# EAGLE library part TA07-11EWA (library 1_Robo-Lib)
50mm (2.0 INCH) 5x7 DOT MATRIX DISPLAY Source: http://www.kingbright.com/manager/upload/pdf/TC20-11EWA(Ver1189410378.9)
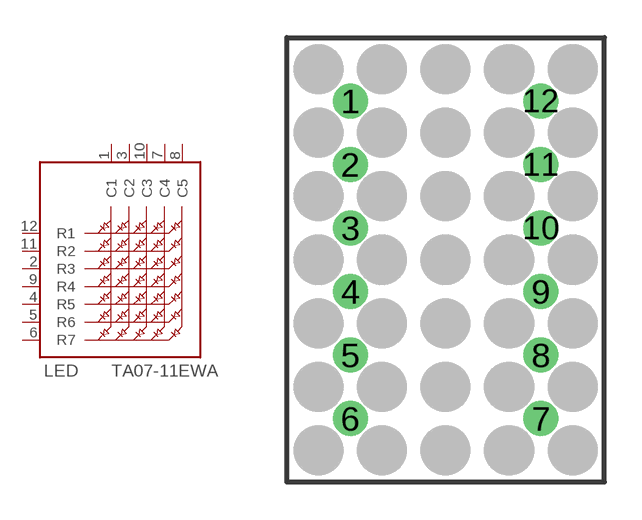
[diagram p7: symbol with the pads of TA07-11EWA; footprint TA07-11EWA]

Designator prefix LED

## TA07-11EWA (OC_FARNELL: unknown; OC_NEWARK: unknown)  [TA07-11EWA]
1  C1  pas
2  R3  pas
3  C2  pas
4  R5  pas
5  R6  pas
6  R7  pas
7  C4  pas
8  C5  pas
9  R4  pas
10  C3  pas
11  R2  pas
12  R1  pas

## Footprint TA07-11EWA (pad centres in mm)
LED-Matrix
drill 0.8 pad 1.4: 1 -3.81,6.35; 2 -3.81,3.81; 3 -3.81,1.27; 4 -3.81,-1.27; 5 -3.81,-3.81; 6 -3.81,-6.35; 7 3.81,-6.35; 8 3.81,-3.81; 9 3.81,-1.27; 10 3.81,1.27; 11 3.81,3.81; 12 3.81,6.35